# EAGLE library part SE2574L (library custom)
RF Power Amplifier 2.4GHz 25dB P1dB 28dB Gain 2.7-5.5V 135mA
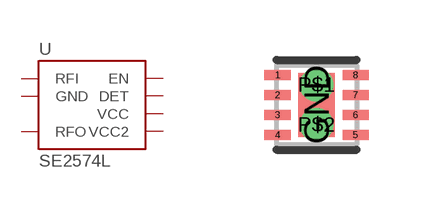
[diagram p98: symbol with the pads of 8-QFN; footprint 8-QFN]

Designator prefix U

## SE2574L  [8-QFN]
1  RFI
2  GND
3  GND
4  RFO
5  VCC2
6  VCC
7  DET
8  EN
GND  GND
P$1  GND
P$2  GND

## Footprint 8-QFN (pad centres in mm)
smd 0.65 x 0.25: 1 -0.975,0.75; 2 -0.975,0.25; 3 -0.975,-0.25; 4 -0.975,-0.75; 5 0.975,-0.75; 6 0.975,-0.25; 7 0.975,0.25; 8 0.975,0.75
smd 0.9 x 1.6: GND 0,0
drill 0.33: P$1 0,0.5; P$2 0,-0.5